# Altium schematic symbol library Inductance.SchLib: 6 symbols
Pins are listed as number, name and electrical type; pins without a type are passive.

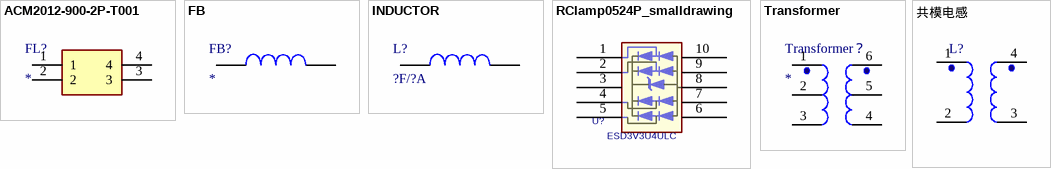
[diagram p0: symbols ACM2012-900-2P-T001 to 共模电感]

## ACM2012-900-2P-T001
designator FL?
Filter; Manufacturer_Name: TDK; Manufacturer_Part_Number: ACM2012-900-2P-T001; Datasheet Link: https://www.mouser.com/datasheet/2/400/mf_automotive_signal_acm2012_en-837177.pdf; Height: 1.3mm; Mouser Part Number: 810-ACM20129002PT001; Mouser Price/Stock: https://www.mouser.com/Search/Refine.aspx?Keyword=810-ACM20129002PT001
footprint ACM20129002PT001
pins: 1, 2, 3, 4

## FB
designator FB?
磁珠
footprint CFB-1508X08N-0603 (Chip Inductor, 2-Leads, Body 1.55x0.80mm, IPC Medium Density)
footprint CFB-2012X08N-0805 (Chip Inductor, 2-Leads, Body 2.00x1.25mm, IPC Medium Density)
pins: 1, 2

## INDUCTOR
designator L?, comment ?F/?A
INDUCTOR
footprint AL0204 (9*2*4mm（脚距，直径，长度）)
footprint AL0204_V (3*2*4mm（脚距，直径，长度）)
footprint AL0307 (11*3*7mm（脚距，直径，长度）)
footprint AL0307_V (3.5*3*7mm（脚距，直径，长度）)
footprint AL0410 (15*4*10.5mm（脚距，直径，长度）)
footprint AL0410_V (5*4*10.5mm（脚距，直径，长度）)
footprint AL0510 (16*5*10.5mm（脚距，直径，长度）)
footprint AL0510_V (6*5*10.5mm（脚距，直径，长度）)
footprint CD31 (3.5*3*1mm（长宽高）)
footprint CD32 (3.5*3*2mm（长宽高）)
footprint CD42 (4.5*4*2mm（长宽高）)
footprint CD43 (4.5*4*3.2mm（长宽高）)
footprint CD52 (5.8*5.2*3mm（长宽高）)
footprint CD53 (5.8*5.2*3.5mm（长宽高）)
footprint CD54 (5.8*5.2*4.5mm（长宽高）)
footprint CD75 (7.8*7*5mm（长宽高）)
footprint CD104 (10*9*4mm（长宽高）)
footprint CD105 (10*9*5.4mm（长宽高）)
footprint CD106 (10*9*6.5mm（长宽高）)
footprint CDRH73 (7.3*7.3*3.4mm（长宽高）)
footprint CDRH74 (7.3*7.3*4.5mm（长宽高）)
footprint CDRH124 (12*12*4.5mm（长宽高）)
footprint CDRH125 (12*12*5mm（长宽高）)
footprint CDRH127 (12*12*8mm（长宽高）)
footprint CDRH129 (12*12*9.5mm（长宽高）)
footprint L 0630 (一体化成型电感)
footprint NR3015 (3mm*3mm*1.5mm(长*宽*高）)
footprint PK0406 (2*5*8mm(脚距，直径，高）)
footprint PK0608 (2.5*7*10mm(脚距，直径，高）)
footprint PK0810 (5*9*12mm(脚距，直径，高）)
footprint PK0912 (6*10*14mm(脚距，直径，高）)
footprint PK1012 (6*11*14mm(脚距，直径，高）)
footprint PK1415 (7.5*15*17mm(脚距，直径，高）)
footprint PK1618 (12.5*17*20mm(脚距，直径，高）)
footprint PK1818 (15*19*20mm(脚距，直径，高）)
footprint 0402L (小功率贴片电感)
footprint 0603L (小功率贴片电感)
footprint 0630L (一体化成型电感)
footprint 0805L (小功率贴片电感)
footprint 1210L (小功率贴片电感)
footprint Model Name (Model Description)
footprint 1806L (小功率贴片电感)
footprint 1812L (小功率贴片电感)
footprint INDC2521X11N (Chip Inductor, 2-Leads, Body 2.50x2.10mm, IPC Medium Density)
footprint INDM7366X30N (Molded Inductor, 2-Leads, Body 7.30x6.60mm, IPC Medium Density)
pins: 1, 2

## RClamp0524P_smalldrawing
designator U?, comment ESD3V3U4ULC
HDMI ESD
footprint PG-TSLP-9-1
pins: 1, 2, 3, 4, 5, 6, 7, 8, 9, 10

## Transformer
designator Transformer？
BOURNS 600ohms 1:1 Audio &Signal Transformers
footprint Transformer-SMD (Audio&Signal Transformers  600ohms 12.5*9.6*7.6mm)
footprint EE14
footprint EE13 (600,1:1音频变压器)
pins: 1, 2, 3, 4, 5, 6

## 共模电感
designator L?
footprint UU9.8 (17*12*17mm(长宽高）)
footprint UU10.5 (18*16*20mm(长宽高）)
footprint UU16 (22*17.5*23mm(长宽高）)
pins: 1, 2, 3, 4